# EAGLE library part 6PH (library LEMS)
6 Pin Header Lock
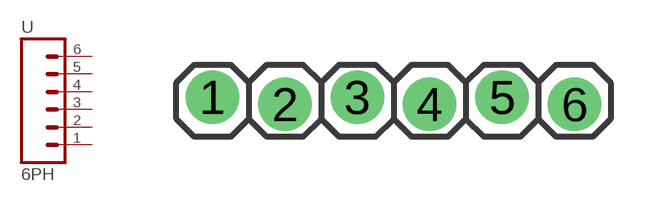
[diagram p8: symbol with the pads of 6PH; footprint 6PH]

Designator prefix -

## 6PHN  [6PH]
1  1  pas
2  2  pas
3  3  pas
4  4  pas
5  5  pas
6  6  pas

## Footprint 6PH (pad centres in mm)
6 Pin Header Lock
drill 1.016 pad 1.88: 1 -6.35,0; 2 -3.81,-0.254; 3 -1.27,0; 4 1.27,-0.254; 5 3.81,0; 6 6.35,-0.254